# Altium footprint library 4G.PcbLib: 31 footprints (part 2 of 2)
Each footprint in its own frame and in the unit in brackets; x right, y up, seen from the top. Pads: shape width x height; smd on the part's side, far side on the other; paste and mask are expansions set on the pad; w line width, h text height; cw(c..) or ccw(c..) is an arc to the next point about the centre after c.
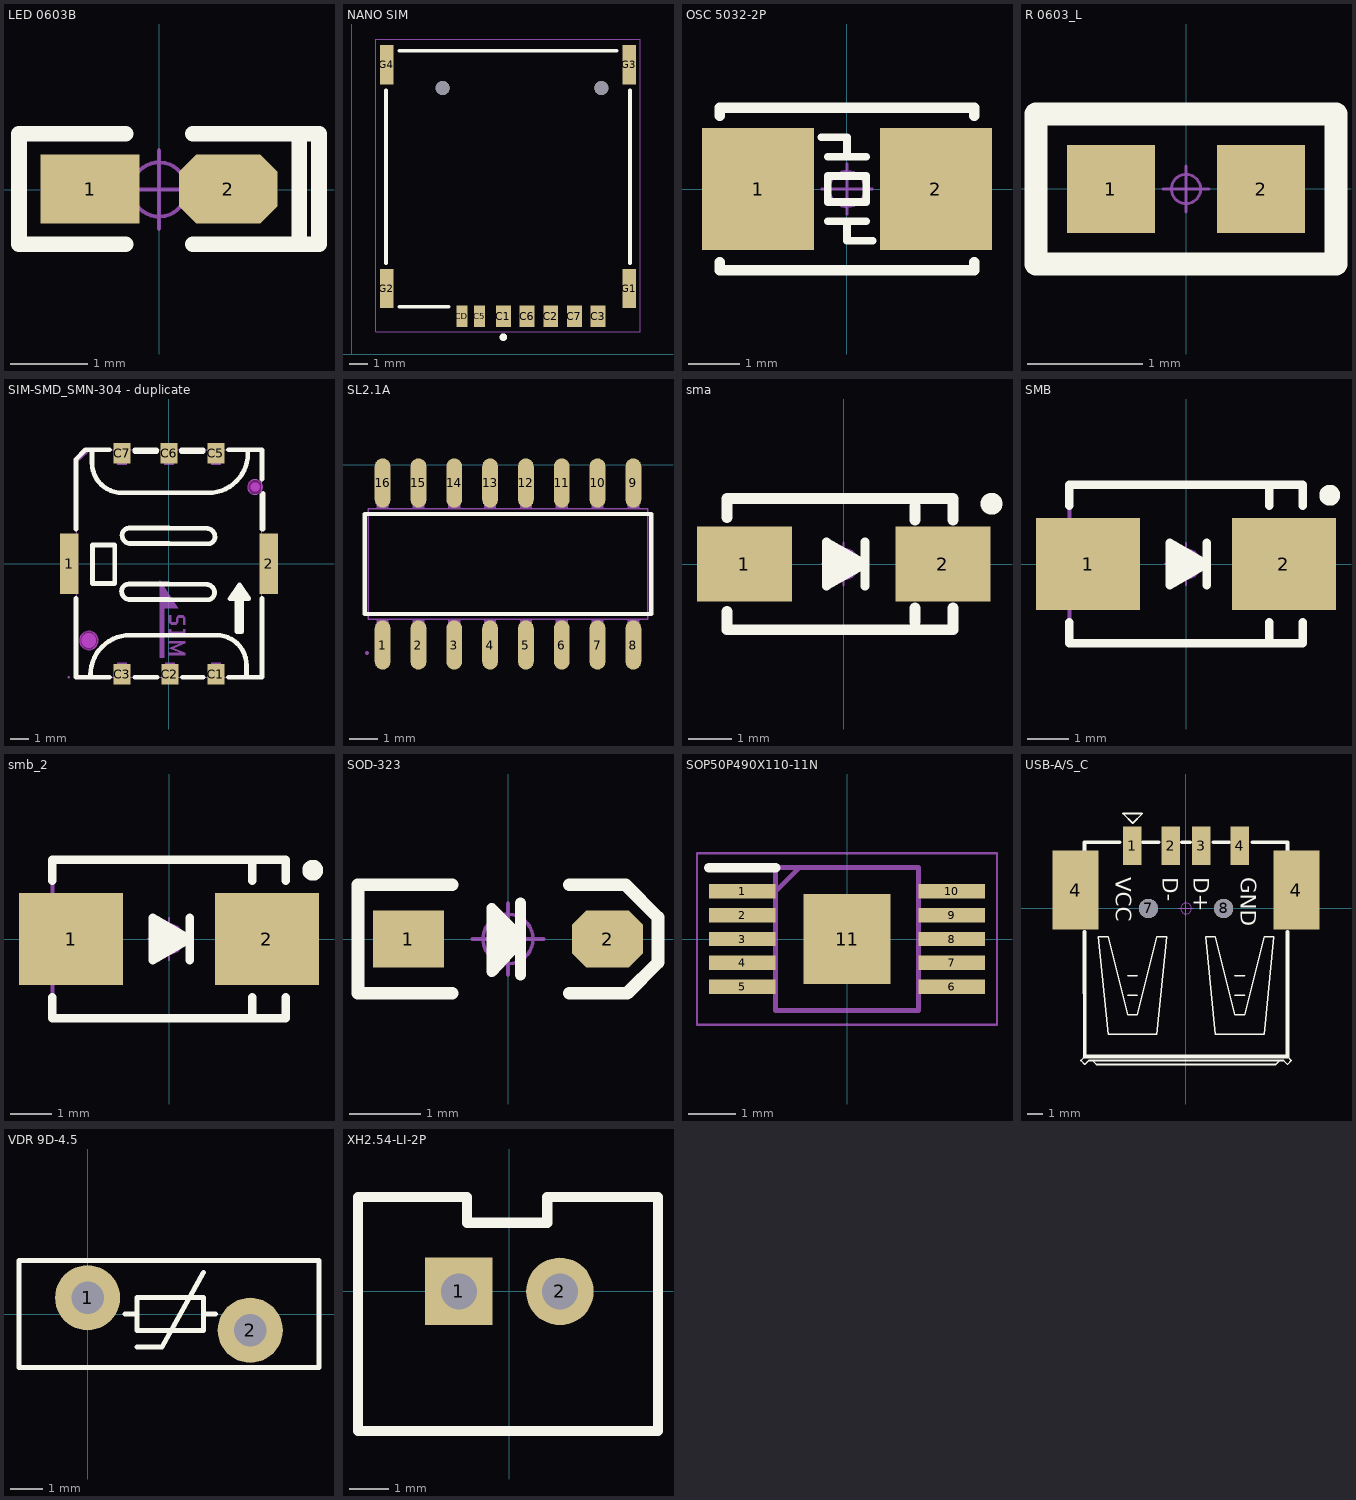
[diagram p1: the footprints below, top view; thin cyan lines are the x and y axes]

## LED 0603B [mil] "蓝色0603LED                             淘宝ID:黄晶宝石"
height 100
pads (2):
  rect 50x35 smd: 1(-35,0.26)
  oct 50x35 smd: 2(35,0.26)
Top Overlay:
  lines w8: -17,-27.74 -71,-27.74 -71,-25.74 -71,28.26 -70,28.26 -17,28.26 ; 17,-27.74 70,-27.74 ; 17,28.26 71,28.26 81,28.26 81,-27.74 71,-27.74 71,26.26
Mechanical 15:
  circle w1.97: c0,0 r13.78
  lines w1.97: -19.69,0 19.68,0 ; 0,-19.68 0,19.69
3D body "LED 0603玻璃罩.STEP": height 23.82, standoff 8.07, extent -23.58,-15.79 23.58,15.79
3D body "LED 0603-B.STEP": height 18.34, standoff -0.16, extent -31.49,-15.79 31.5,15.79

## NANO SIM [mm]
height 2.54
pads (13):
  rect 0.8x1.14 smd: C1(8.132,2.028) C2(10.672,2.028) C3(13.212,2.028) C6(9.402,2.028) C7(11.942,2.028)
  rect 0.6x1.14 smd: C5(6.862,2.028) CD(5.912,2.028)
  rect 0.7x2.1 smd: G1(14.882,3.508) G2(1.882,3.508) G3(14.882,15.508) G4(1.882,15.508)
  round 0.75 hole 0.75 unplated: ""(4.882,14.258) ""(13.382,14.258)
Top Overlay:
  circle w0.2: c8.132,0.908 r0.1
  lines w0.2: 1.837,4.878 1.837,14.138 ; 2.552,2.538 5.192,2.538 ; 2.552,16.258 14.212,16.258 ; 14.927,4.878 14.927,14.138
Mechanical 13:
  circle w0.2: c8.132,0.908 r0.1
Mechanical 15:
  lines w0.05: 1.282,1.208 1.282,16.891 15.482,16.891 15.482,1.208 1.282,1.208

## OSC 5032-2P [mm] "5mm*3.2mm*0.8mm(长*宽*高)                  淘宝ID:黄晶宝石"
height 2.54
pads (2):
  rect 2.2x2.4 smd: 1(-1.75,0) 2(1.75,0)
Top Overlay:
  lines w0.152: -0.508,1.016 0,1.016 0,0.635 ; -0.381,-0.635 0.381,-0.635 ; -0.381,0.635 0.381,0.635 ; 0,-0.635 0,-1.016 0.381,-1.016 0.508,-1.016 ; -0.381,-0.254 0.381,-0.254 0.381,0.254 -0.381,0.254 -0.381,-0.254
  lines w0.203: -2.5,-1.437 -2.5,-1.6 2.5,-1.6 2.5,-1.437 ; -2.5,1.437 -2.5,1.6 2.5,1.6 2.5,1.437
Mechanical 15:
  circle w0.05: c0,0 r0.35
  lines w0.05: -0.5,0 0.5,0 ; 0,-0.5 0,0.5
3D body "OSC 5032-2.STEP": height 0.86, standoff 0.04, extent -2.5,-1.6 2.5,1.6

## PCBComponent_1 [mm]

## R 0603_L [mil] "1/10W贴片电阻                 淘宝ID:黄晶宝石"
height 196.85
pads (2):
  rect 30x30 smd: 1(-25.59,0) 2(25.59,0)
Top Overlay:
  lines w8: -51.18,-25.59 -51.18,25.59 51.18,25.59 51.18,-25.59 -51.18,-25.59
Mechanical 15:
  circle w1: c0,0 r5
  lines w1: -7.87,0 7.87,0 ; 0,-7.87 0,7.87
3D body "R 0603.STEP": height 15.79, standoff -0.13, extent -31.5,-15.75 31.5,15.75

## SIM-SMD_SMN-304 - duplicate [mm]
pads (8):
  rect 1x3.29 smd: 1(-5.39,0) 2(5.39,0)
  rect 0.9x1.1 smd: C1(2.54,-5.975) C2(0.051,-5.975) C3(-2.54,-5.975) C5(2.54,5.975) C6(0,5.975) C7(-2.54,5.975)
Top Overlay:
  region: 3.81,-1.143 3.302,-1.905 3.683,-1.905 3.683,-3.683 3.937,-3.683 3.937,-1.905 4.318,-1.905
  lines w0.254: -5.031,-1.876 -5.031,-6.149 -3.221,-6.149 ; -5.031,1.876 -5.031,5.655 -4.524,6.162 -3.221,6.162 ; -4.242,-5.999 cw(c-2.108,-5.999) -2.108,-3.866 ; -4.166,6.162 -4.166,5.456 ccw(c-2.54,5.456) -2.54,3.83 2.108,3.83 ; -2.083,-3.866 2.565,-3.866 cw(c2.565,-5.491) 4.191,-5.491 4.191,-6.101 ; -1.859,-6.149 -0.63,-6.149 ; -1.859,6.071 -0.681,6.071 ; -1.859,6.162 -0.681,6.162 ; -0.076,-1.954 2.083,-1.954 ccw(c2.083,-1.573) 2.464,-1.573 ccw(c2.006,-1.573) 2.006,-1.116 -0.076,-1.116 ; -0.051,1.075 2.108,1.075 ccw(c2.108,1.456) 2.489,1.456 ccw(c2.032,1.456) 2.032,1.913 -0.051,1.913 ; -0.025,-1.942 -2.108,-1.942 cw(c-2.108,-1.485) -2.565,-1.485 cw(c-2.184,-1.485) -2.184,-1.104 -0.025,-1.103 ; 0,1.087 -2.083,1.087 cw(c-2.083,1.544) -2.54,1.544 cw(c-2.159,1.544) -2.159,1.925 0,1.925 ; 0.681,6.071 1.859,6.071 ; 0.681,6.162 1.859,6.162 ; 0.732,-6.149 1.859,-6.149 ; 2.134,3.83 ccw(c2.134,5.964) 4.267,5.964 4.267,6.162 ; 3.221,-6.149 5.031,-6.149 5.031,-1.876 ; 3.221,6.162 5.031,6.162 5.031,4.575 ; 5.031,1.876 5.031,3.716 ; 5.105,1.871 5.105,3.794 ; -4.134,-1.069 -2.94,-1.069 -2.94,1.014 -4.134,1.014 -4.134,-1.069 ; 3.302,-1.905 3.81,-1.143 4.318,-1.905 3.937,-1.905 3.937,-3.683 3.683,-3.683 3.683,-1.905 3.302,-1.905
Keep-Out Layer:
  board cut-out: -3.84,-4.155 -3.84,-4.056 -3.916,-3.872 -4.057,-3.731 -4.241,-3.655 -4.439,-3.655 -4.623,-3.731 -4.764,-3.872 -4.84,-4.056 -4.84,-4.155 -4.84,-4.255 -4.764,-4.438 -4.623,-4.579 -4.439,-4.655 -4.241,-4.655 -4.057,-4.579 -3.916,-4.438 -3.84,-4.255 -3.84,-4.155
  board cut-out: 5.06,4.145 5.06,4.225 4.999,4.372 4.887,4.484 4.74,4.545 4.58,4.545 4.433,4.484 4.321,4.372 4.26,4.225 4.26,4.145 4.26,4.066 4.321,3.919 4.433,3.806 4.58,3.745 4.74,3.745 4.887,3.806 4.999,3.919 5.06,4.066 5.06,4.145
Mechanical 1:
  circle w0.005: c-4.34,-4.155 r0.5
  circle w0.005: c4.66,4.145 r0.4
Mechanical 6:
  circle w0.25: c4.66,4.145 r0.125
  circle w0.4: c-4.34,-4.155 r0.2
  region: -0.508,-0.889 -0.508,-5.08 -0.254,-5.08 -0.254,-2.413 0.508,-2.413
  region: 0,-2.794 0,-3.175 0.127,-3.302 0.381,-3.302 0.508,-3.175 0.508,-2.921 0.762,-2.921 0.762,-3.302 0.889,-3.302 0.889,-2.921 0.762,-2.794 0.508,-2.794 0.381,-2.921 0.381,-3.175 0.254,-3.175 0.127,-3.175 0.127,-2.794
  region: 0,-3.556 0.127,-3.556 0.127,-3.683 0.762,-3.683 0.762,-3.556 0.889,-3.556 0.889,-3.937 0.762,-3.937 0.762,-3.81 0.127,-3.81 0.127,-3.937 0,-3.937
  region: 0,-4.191 0.889,-4.191 0.889,-4.318 0.254,-4.572 0.889,-4.826 0.889,-4.953 0,-4.953 0,-4.826 0.635,-4.826 0,-4.572 0.635,-4.318 0,-4.318
  region: -4.445,6.223 -5.08,5.588 -4.826,5.588 -4.191,6.223
Mechanical 15:
  region: -5.365,-6.15 -5.365,-6.125 -5.4,-6.09 -5.45,-6.09 -5.485,-6.125 -5.485,-6.15 -5.485,-6.175 -5.45,-6.21 -5.4,-6.21 -5.365,-6.175 -5.365,-6.15
  region: 2.29,6.15 2.79,6.15 2.79,5.35 2.29,5.35
  region: -0.25,6.15 0.25,6.15 0.25,5.35 -0.25,5.35
  region: -2.79,6.15 -2.29,6.15 -2.29,5.35 -2.79,5.35
  region: -2.79,-5.35 -2.29,-5.35 -2.29,-6.15 -2.79,-6.15
  region: -0.199,-5.35 0.301,-5.35 0.301,-6.15 -0.199,-6.15
  region: 2.29,-5.35 2.79,-5.35 2.79,-6.15 2.29,-6.15
  region: 4.925,1.25 5.425,1.25 5.425,-1.25 4.925,-1.25
  region: -5.425,1.25 -4.925,1.25 -4.925,-1.25 -5.425,-1.25
  lines w0.051: -5.031,5.655 -5.025,-6.15 5.025,-6.15 5.025,6.15 -4.537,6.15 -5.031,5.655

## SL2.1A [mm]
pads (16):
  oval 0.56x1.745 smd paste+0 mask+0.051: 1(7.624,-6.383) 2(8.894,-6.383) 3(10.164,-6.383) 4(11.434,-6.383) 5(12.704,-6.383) 6(13.974,-6.383) 7(15.244,-6.383) 8(16.514,-6.383) 9(16.514,-0.638) 10(15.244,-0.638) 11(13.974,-0.638) 12(12.704,-0.638) 13(11.434,-0.638) 14(10.164,-0.638) 15(8.894,-0.638) 16(7.624,-0.638)
Top Overlay:
  lines w0.152: 6.993,-5.282 17.145,-5.282 17.145,-1.739 6.993,-1.739 6.993,-5.282
Mechanical 1:
  drawing of 37 lines, arcs and shapes, not listed
  text "SL2.1A" at 16.054,-1.92 h0.78

## sma [mm] "4.5x2.6*2.2mm（长宽高，不包括引脚）"
height 2.54
pads (2):
  rect 2.2x1.75 smd: 1(-2.3,0) 2(2.3,0)
Top Overlay:
  circle w0.254: c3.429,1.397 r0.127
  lines w0.203: 0.494,-0.508 0.494,0.508 ; -0.395,-0.508 -0.395,0.508 0.494,0 -0.395,-0.508
  lines w0.254: -2.7,-1.105 -2.7,-1.524 2.54,-1.524 2.54,-1.016 ; -2.7,1.08 -2.7,1.524 2.54,1.524 2.54,1.016 ; -0.33,0.305 0.305,0 -0.254,-0.305 -0.254,0.051 0.023,0 ; 1.651,-1.35 1.651,-1.016 ; 1.651,1.016 1.651,1.35
Mechanical 15:
  circle w0.05: c0,0 r0.35
  lines w0.05: -0.5,0 0.5,0 ; 0,-0.5 0,0.5
3D body "SMA.STEP": height 2.15, standoff 0.04, extent -2.522,-1.3 2.575,1.3

## SMB [mm] "4.7*3.9*2.2mm(长宽高，不包括引脚）"
height 2.4
pads (2):
  rect 2.5x2.2 smd: 1(-2.35,0) 2(2.35,0)
Top Overlay:
  circle w0.25: c3.45,1.65 r0.125
  lines w0.2: -2.8,-1.4 -2.8,-1.9 2.8,-1.9 2.8,-1.4 ; -2.8,1.4 -2.8,1.9 2.8,1.9 2.8,1.4 ; 2,-1.9 2,-1.4 ; 2,1.4 2,1.9
  lines w0.203: 0.5,-0.508 0.5,0.508 ; -0.389,-0.508 0.5,0 -0.389,0.508 -0.389,-0.508
  lines w0.254: -0.254,0 0.279,0 ; 0.279,0 -0.229,-0.305 -0.229,0.279 0.279,0
Mechanical 13:
  lines w0.1: 2.8,-1.9 -2.8,-1.9 -2.8,1.9 2.8,1.9
Mechanical 15:
  circle w0.05: c0,0 r0.35
  lines w0.05: -0.5,0 0.5,0 ; 0,-0.5 0,0.5
3D body "SMB.STEP": height 2.35, standoff 0.04, extent -2.628,-1.8 2.675,1.8

## smb_2 [mm]
pads (2):
  rect 2.5x2.2 smd: 1(-2.35,0) 2(2.35,0)
Top Overlay:
  circle w0.25: c3.45,1.65 r0.125
  lines w0.2: -2.8,-1.4 -2.8,-1.9 2.8,-1.9 2.8,-1.4 ; -2.8,1.4 -2.8,1.9 2.8,1.9 2.8,1.4 ; 2,-1.9 2,-1.4 ; 2,1.4 2,1.9
  lines w0.203: 0.5,-0.508 0.5,0.508 ; -0.389,-0.508 0.5,0 -0.389,0.508 -0.389,-0.508
  lines w0.254: -0.254,0 0.279,0 ; 0.279,0 -0.229,-0.305 -0.229,0.279 0.279,0
Mechanical 13:
  lines w0.1: 2.8,-1.9 -2.8,-1.9 -2.8,1.9 2.8,1.9
Mechanical 15:
  circle w0.05: c0,0 r0.35
  lines w0.05: -0.5,0 0.5,0 ; 0,-0.5 0,0.5
3D body "SMB.STEP": height 2.35, standoff 0.04, extent -2.629,-1.8 2.675,1.8

## SOD-323 [mm] "1.8x1.3X0.9mm（长宽高，不包括引脚）"
height 2.54
pads (2):
  rect 1x0.8 smd: 1(-1.4,0)
  oct 1x0.8 smd: 2(1.4,0)
Top Overlay:
  lines w0.152: 0.178,-0.508 0.178,0.508 ; 0.178,-0.025 -0.229,-0.457 -0.229,0.432 0.178,0.025
  lines w0.178: -0.787,-0.762 -2.108,-0.762 -2.108,0.762 -0.787,0.762 ; 0.864,-0.762 1.676,-0.762 2.108,-0.33 2.108,0.305 1.651,0.762 0.864,0.762
  lines w0.254: -0.127,0.254 -0.152,-0.178 0.025,-0.025 -0.025,0.127
Mechanical 15:
  circle w0.05: c0,0 r0.35
  lines w0.05: -0.5,0 0.5,0 ; 0,-0.5 0,0.5
3D body "SOD-323.STEP": height 1, standoff 0.04, extent -1.337,-0.631 1.311,0.669

## SOP50P490X110-11N [mm]
height 0.254
pads (11):
  rect 1.4x0.3 smd: 1(-2.2,1) 2(-2.2,0.5) 3(-2.2,0) 4(-2.2,-0.5) 5(-2.2,-1) 6(2.2,-1) 7(2.2,-0.5) 8(2.2,0) 9(2.2,0.5) 10(2.2,1)
  rect 1.83x1.89 smd: 11(0,0)
Top Overlay:
  lines w0.2: -2.9,1.5 -1.5,1.5
Mechanical 13:
  lines w0.1: -1.5,1 -1,1.5 ; -1.5,-1.5 1.5,-1.5 1.5,1.5 -1.5,1.5 -1.5,-1.5
Mechanical 15:
  lines w0.05: -3.15,-1.8 3.15,-1.8 3.15,1.8 -3.15,1.8 -3.15,-1.8
3D body "TPS54260MDGQTEP.stp": height 0.96, standoff 0, extent -2.463,-1.5 2.463,1.5

## USB-A/S_C [mm] "A型贴片母头， 淘宝ID:黄晶宝石   店铺网址:https://shop463601444.taobao.com"
height 2.54
pads (8):
  rect 1.2x2.5 smd: 1(-3.5,4.1) 2(-1,4.1) 3(1,4.1) 4(3.5,4.1)
  rect 3x5.15 smd: 4(-7.2,1.2) 4(7.2,1.2)
  round 1.25 hole 1.25 unplated: 7(-2.45,0) 8(2.45,0)
Top Overlay:
  lines w0.1: -6.597,-9.652 -6.851,-9.906 -6.597,-10.16 -6.343,-9.906 -6.089,-9.906 ; -3.803,-5.649 -3.168,-5.649 ; -3.803,-4.379 -3.168,-4.379 ; 3.182,-5.649 3.817,-5.649 ; 3.182,-4.379 3.817,-4.379 ; 6.611,-9.652 6.865,-9.906 6.611,-10.16 6.357,-9.906 6.103,-9.906 ; -6.089,-9.906 6.103,-9.906 ; -6.089,-9.906 -5.835,-10.166 5.849,-10.166 6.103,-9.906 ; -5.708,-1.839 -5.073,-1.839 -3.803,-6.919 -3.168,-6.919 -1.898,-1.839 -1.263,-1.839 -1.898,-8.189 -5.073,-8.189 -5.708,-1.839 ; -4.113,6.19 -2.843,6.19 -3.478,5.555 -4.113,6.19 ; 1.277,-1.839 1.912,-1.839 3.182,-6.919 3.817,-6.919 5.087,-1.839 5.722,-1.839 5.087,-8.189 1.912,-8.189 1.277,-1.839
  lines w0.254: -6.604,-1.524 -6.597,-9.652 ; -6.604,3.81 -6.604,4.318 -4.318,4.318 ; -6.597,-9.652 6.611,-9.652 ; -2.794,4.318 -1.778,4.318 ; -0.254,4.318 0.254,4.318 ; 1.778,4.318 2.794,4.318 ; 4.318,4.318 6.611,4.318 6.604,3.81 ; 6.604,-1.524 6.611,-9.652
  text "VCC" at -4.572,2.032 h1.02
  text "D-" at -1.524,2.032 h1.02
  text "D+" at 0.508,2.032 h1.02
  text "GND" at 3.556,2.032 h1.02
Mechanical 15:
  circle w0.05: c0,0 r0.35
  lines w0.05: -0.5,0 0.5,0 ; 0,-0.5 0,0.5
3D body "USB A型 ?": height 7.4, standoff -0.55, extent -7.75,-9.9 7.75,4.8

## VDR 9D-4.5 [mm] "压敏电阻9mm*4.5mm(直径*厚度）          淘宝ID:黄晶宝石"
height 0.254
pads (2):
  round 2 hole 1: 1(0,0.5) 2(5,-0.5)
Top Overlay:
  lines w0.152: 1.143,0 1.524,0 ; 1.524,-1.016 2.286,-1.016 3.556,1.27 ; 3.556,0 3.937,0 ; -2.108,-1.651 7.112,-1.651 7.112,1.651 -2.108,1.651 -2.108,-1.651 ; 1.524,-0.508 1.524,0.508 3.556,0.508 3.556,-0.508 1.524,-0.508
3D body "9D-4.5.STEP": height 10, standoff -3.5, extent -1.999,-1.5 6.999,1.5

## XH2.54-LI-2P [mm] "接插件，2P  淘宝ID:黄晶宝石   店铺网址:https://shop463601444.taobao.com"
height 2.54
pads (2):
  rect 1.7x1.7 hole 0.9: 1(-1.27,0)
  round 1.7 hole 0.9: 2(1.27,0)
Top Overlay:
  lines w0.254: -3.807,-3.505 -3.807,2.37 -1.067,2.37 -1.067,1.727 0.953,1.727 0.953,2.37 2.954,2.37 3.736,2.37 3.736,-3.505 -3.807,-3.505
3D body "XH2.54-2P.STEP": height 7.05, standoff -2.45, extent -3.77,-3.3 3.77,2.4